# Altium integrated library Maxim Digital Potentiometers.IntLib: 1045 symbols (part 22 of 42)
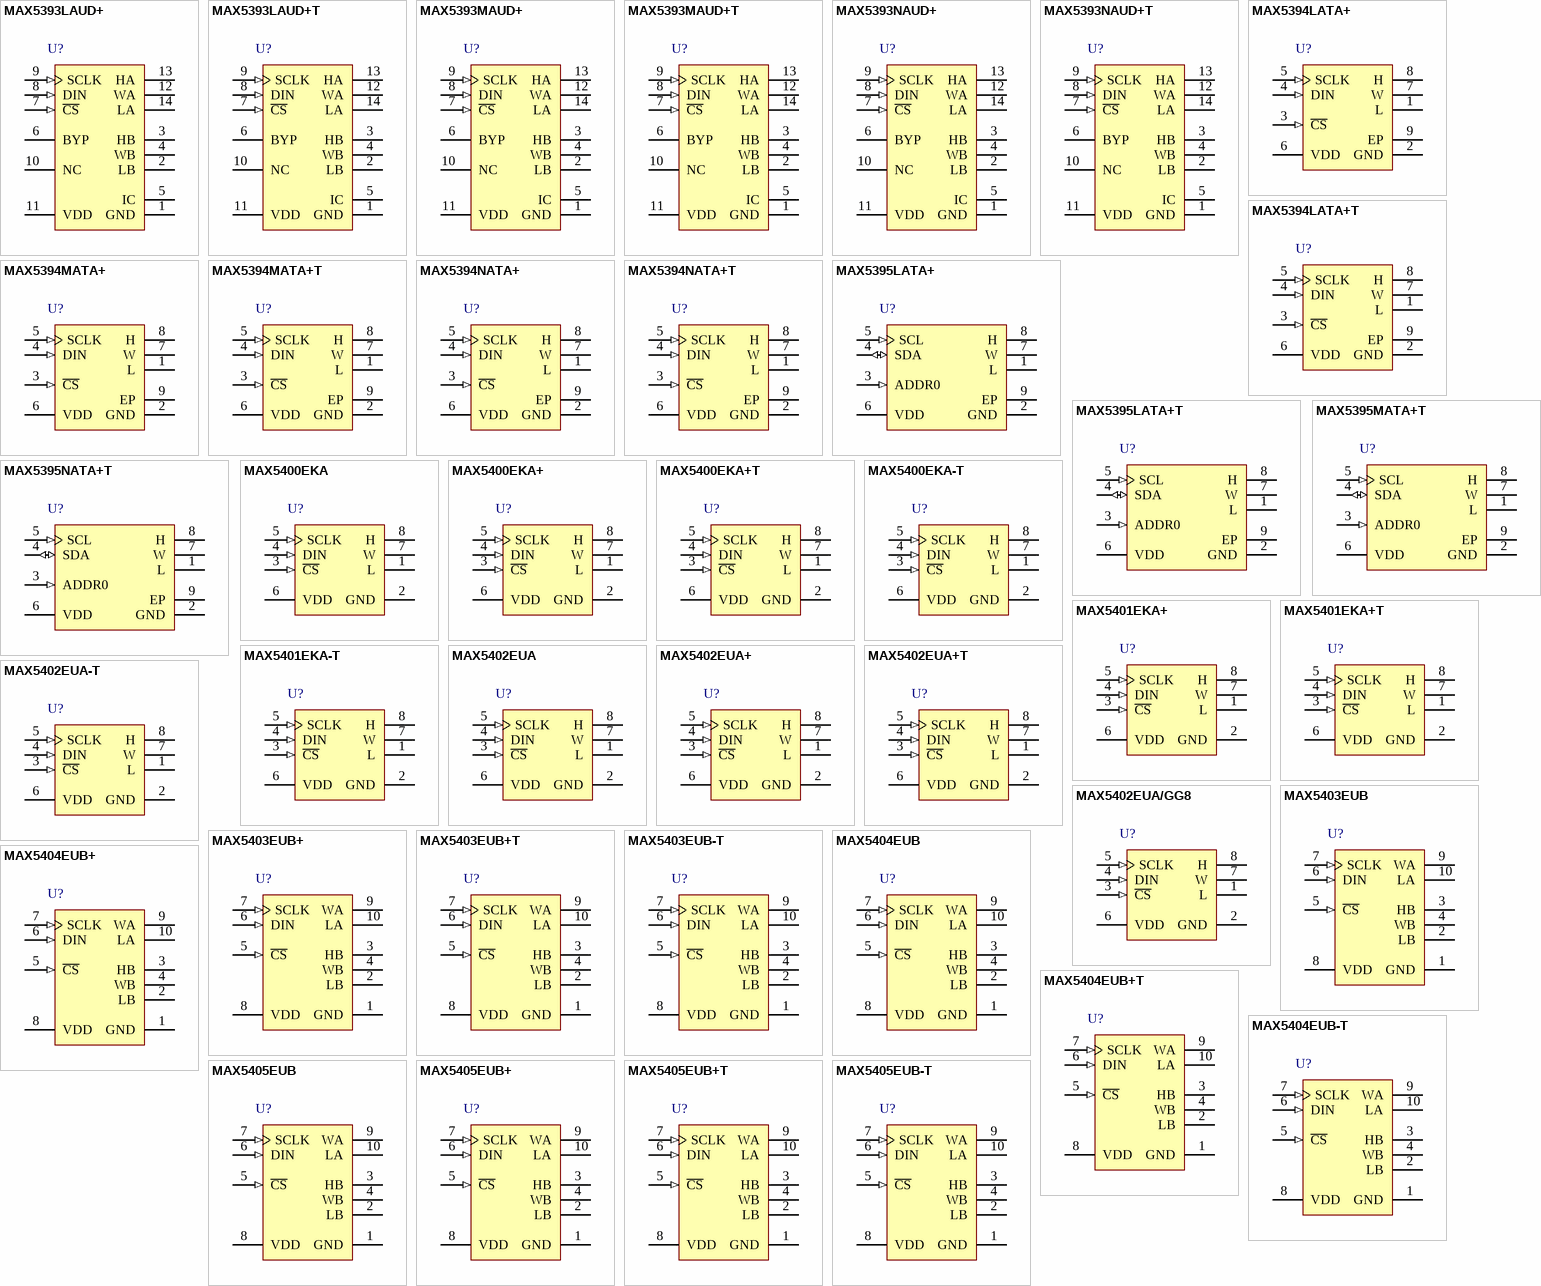
[diagram p50: symbols MAX5393LAUD+ to MAX5405EUB-T]

## MAX5404EUB-T
designator U?
Dual, Low Drift, Digital Potentiometers in 10-uMAX with 3-Wire Serial SPI Control Interface, Volatile, Linear Taper, 256 Steps, -40 to 85 degC, 10-pin uMAX (U10CN-1), Tape and Reel; PartNumber: MAX5404EUB-T; DatasheetVersion: Rev. 2; PackageVersion: Rev. L, 07/2008; PackageReference: U10CN-1; PackageDescription: 10-Pin Micro-MAX, Thin Shrink Small-Outline (U10CN-1), Body 3 x 3 mm, Pitch 0.5 mm; Supplier 1: Mouser; Supplier Part Number 1: N/A; Control Interface: 3-Wire Serial SPI; Mounting Technology: Surface Mount; Code_JEDEC: MO-187; ComponentLink1Description: Manufacturer URL; ComponentLink1URL: http://www.maximintegrated.com/; ComponentLink2Description: Datasheet; ComponentLink2URL: http://datasheets.maximintegrated.com/en/ds/MAX5403-MAX5405.pdf; ComponentLink3Description: Package Specification; ComponentLink3URL: http://pdfserv.maximintegrated.com/package_dwgs/21-0061.PDF
footprint MAXM-U10CN-1_N (SOP, 10-Leads, Body 3x3mm, Pitch 0.5mm, IPC Medium Density)
footprint MAXM-U10CN-1_L (SOP, 10-Leads, Body 3x3mm, Pitch 0.5mm, IPC High Density)
footprint MAXM-U10CN-1_M (SOP, 10-Leads, Body 3x3mm, Pitch 0.5mm, IPC Low Density)
pins: 1 GND (power) "Ground", 2 LB "Low Terminal of Resistor B", 3 HB "High Terminal of Resistor B", 4 WB "Wiper Terminal of Resistor B", 5 ~{CS} (in) "SPI Chip Select", 6 DIN (in) "SPI Serial Data Input", 7 SCLK (in) "SPI Clock Input", 8 VDD (power) "Power Supply, +2.7V to +5.5V. Connect a 0.1uF capacitor to GND.", 9 WA "Wiper Terminal of Resistor A", 10 LA "Low Terminal of Resistor A"

## MAX5405EUB
designator U?
Dual, Low Drift, Digital Potentiometers in 10-uMAX with 3-Wire Serial SPI Control Interface, Volatile, Linear Taper, 256 Steps, -40 to 85 degC, 10-pin uMAX (U10CN-1); PartNumber: MAX5405EUB; DatasheetVersion: Rev. 2; PackageVersion: Rev. L, 07/2008; PackageReference: U10CN-1; PackageDescription: 10-Pin Micro-MAX, Thin Shrink Small-Outline (U10CN-1), Body 3 x 3 mm, Pitch 0.5 mm; Supplier 1: Digi-Key; Supplier Part Number 1: MAX5405EUB-ND; Supplier 2: Mouser; Supplier Part Number 2: N/A; Control Interface: 3-Wire Serial SPI; Mounting Technology: Surface Mount; Code_JEDEC: MO-187; ComponentLink1Description: Manufacturer URL; ComponentLink1URL: http://www.maximintegrated.com/; ComponentLink2Description: Datasheet; ComponentLink2URL: http://datasheets.maximintegrated.com/en/ds/MAX5403-MAX5405.pdf; ComponentLink3Description: Package Specification; ComponentLink3URL: http://pdfserv.maximintegrated.com/package_dwgs/21-0061.PDF
footprint MAXM-U10CN-1_N (SOP, 10-Leads, Body 3x3mm, Pitch 0.5mm, IPC Medium Density)
footprint MAXM-U10CN-1_L (SOP, 10-Leads, Body 3x3mm, Pitch 0.5mm, IPC High Density)
footprint MAXM-U10CN-1_M (SOP, 10-Leads, Body 3x3mm, Pitch 0.5mm, IPC Low Density)
pins: 1 GND (power) "Ground", 2 LB "Low Terminal of Resistor B", 3 HB "High Terminal of Resistor B", 4 WB "Wiper Terminal of Resistor B", 5 ~{CS} (in) "SPI Chip Select", 6 DIN (in) "SPI Serial Data Input", 7 SCLK (in) "SPI Clock Input", 8 VDD (power) "Power Supply, +2.7V to +5.5V. Connect a 0.1uF capacitor to GND.", 9 WA "Wiper Terminal of Resistor A", 10 LA "Low Terminal of Resistor A"

## MAX5405EUB+
designator U?
Dual, Low Drift, Digital Potentiometers in 10-uMAX with 3-Wire Serial SPI Control Interface, Volatile, Linear Taper, 256 Steps, -40 to 85 degC, 10-pin uMAX (U10CN+1), Pb-Free; PartNumber: MAX5405EUB+; DatasheetVersion: Rev. 2; PackageVersion: Rev. L, 07/2008; PackageReference: U10CN+1; PackageDescription: 10-Pin Micro-MAX, Thin Shrink Small-Outline (U10CN+1), Body 3 x 3 mm, Pitch 0.5 mm; Supplier 1: Digi-Key; Supplier Part Number 1: MAX5405EUB+-ND; Supplier 2: Mouser; Supplier Part Number 2: 700-MAX5405EUB; Control Interface: 3-Wire Serial SPI; Mounting Technology: Surface Mount; Code_JEDEC: MO-187; ComponentLink1Description: Manufacturer URL; ComponentLink1URL: http://www.maximintegrated.com/; ComponentLink2Description: Datasheet; ComponentLink2URL: http://datasheets.maximintegrated.com/en/ds/MAX5403-MAX5405.pdf; ComponentLink3Description: Package Specification; ComponentLink3URL: http://pdfserv.maximintegrated.com/package_dwgs/21-0061.PDF
footprint MAXM-U10CN+1_N (SOP, 10-Leads, Body 3x3mm, Pitch 0.5mm, IPC Medium Density)
footprint MAXM-U10CN+1_L (SOP, 10-Leads, Body 3x3mm, Pitch 0.5mm, IPC High Density)
footprint MAXM-U10CN+1_M (SOP, 10-Leads, Body 3x3mm, Pitch 0.5mm, IPC Low Density)
pins: 1 GND (power) "Ground", 2 LB "Low Terminal of Resistor B", 3 HB "High Terminal of Resistor B", 4 WB "Wiper Terminal of Resistor B", 5 ~{CS} (in) "SPI Chip Select", 6 DIN (in) "SPI Serial Data Input", 7 SCLK (in) "SPI Clock Input", 8 VDD (power) "Power Supply, +2.7V to +5.5V. Connect a 0.1uF capacitor to GND.", 9 WA "Wiper Terminal of Resistor A", 10 LA "Low Terminal of Resistor A"

## MAX5405EUB+T
designator U?
Dual, Low Drift, Digital Potentiometers in 10-uMAX with 3-Wire Serial SPI Control Interface, Volatile, Linear Taper, 256 Steps, -40 to 85 degC, 10-pin uMAX (U10CN+1), Pb-Free, Tape and Reel; PartNumber: MAX5405EUB+T; DatasheetVersion: Rev. 2; PackageVersion: Rev. L, 07/2008; PackageReference: U10CN+1; PackageDescription: 10-Pin Micro-MAX, Thin Shrink Small-Outline (U10CN+1), Body 3 x 3 mm, Pitch 0.5 mm; Supplier 1: Digi-Key; Supplier Part Number 1: MAX5405EUB+T-ND; Supplier 2: Mouser; Supplier Part Number 2: 700-MAX5405EUBT; Control Interface: 3-Wire Serial SPI; Mounting Technology: Surface Mount; Code_JEDEC: MO-187; ComponentLink1Description: Manufacturer URL; ComponentLink1URL: http://www.maximintegrated.com/; ComponentLink2Description: Datasheet; ComponentLink2URL: http://datasheets.maximintegrated.com/en/ds/MAX5403-MAX5405.pdf; ComponentLink3Description: Package Specification; ComponentLink3URL: http://pdfserv.maximintegrated.com/package_dwgs/21-0061.PDF
footprint MAXM-U10CN+1_N (SOP, 10-Leads, Body 3x3mm, Pitch 0.5mm, IPC Medium Density)
footprint MAXM-U10CN+1_L (SOP, 10-Leads, Body 3x3mm, Pitch 0.5mm, IPC High Density)
footprint MAXM-U10CN+1_M (SOP, 10-Leads, Body 3x3mm, Pitch 0.5mm, IPC Low Density)
pins: 1 GND (power) "Ground", 2 LB "Low Terminal of Resistor B", 3 HB "High Terminal of Resistor B", 4 WB "Wiper Terminal of Resistor B", 5 ~{CS} (in) "SPI Chip Select", 6 DIN (in) "SPI Serial Data Input", 7 SCLK (in) "SPI Clock Input", 8 VDD (power) "Power Supply, +2.7V to +5.5V. Connect a 0.1uF capacitor to GND.", 9 WA "Wiper Terminal of Resistor A", 10 LA "Low Terminal of Resistor A"

## MAX5405EUB-T
designator U?
Dual, Low Drift, Digital Potentiometers in 10-uMAX with 3-Wire Serial SPI Control Interface, Volatile, Linear Taper, 256 Steps, -40 to 85 degC, 10-pin uMAX (U10CN-1), Tape and Reel; PartNumber: MAX5405EUB-T; DatasheetVersion: Rev. 2; PackageVersion: Rev. L, 07/2008; PackageReference: U10CN-1; PackageDescription: 10-Pin Micro-MAX, Thin Shrink Small-Outline (U10CN-1), Body 3 x 3 mm, Pitch 0.5 mm; Supplier 1: Mouser; Supplier Part Number 1: N/A; Control Interface: 3-Wire Serial SPI; Mounting Technology: Surface Mount; Code_JEDEC: MO-187; ComponentLink1Description: Manufacturer URL; ComponentLink1URL: http://www.maximintegrated.com/; ComponentLink2Description: Datasheet; ComponentLink2URL: http://datasheets.maximintegrated.com/en/ds/MAX5403-MAX5405.pdf; ComponentLink3Description: Package Specification; ComponentLink3URL: http://pdfserv.maximintegrated.com/package_dwgs/21-0061.PDF
footprint MAXM-U10CN-1_N (SOP, 10-Leads, Body 3x3mm, Pitch 0.5mm, IPC Medium Density)
footprint MAXM-U10CN-1_L (SOP, 10-Leads, Body 3x3mm, Pitch 0.5mm, IPC High Density)
footprint MAXM-U10CN-1_M (SOP, 10-Leads, Body 3x3mm, Pitch 0.5mm, IPC Low Density)
pins: 1 GND (power) "Ground", 2 LB "Low Terminal of Resistor B", 3 HB "High Terminal of Resistor B", 4 WB "Wiper Terminal of Resistor B", 5 ~{CS} (in) "SPI Chip Select", 6 DIN (in) "SPI Serial Data Input", 7 SCLK (in) "SPI Clock Input", 8 VDD (power) "Power Supply, +2.7V to +5.5V. Connect a 0.1uF capacitor to GND.", 9 WA "Wiper Terminal of Resistor A", 10 LA "Low Terminal of Resistor A"

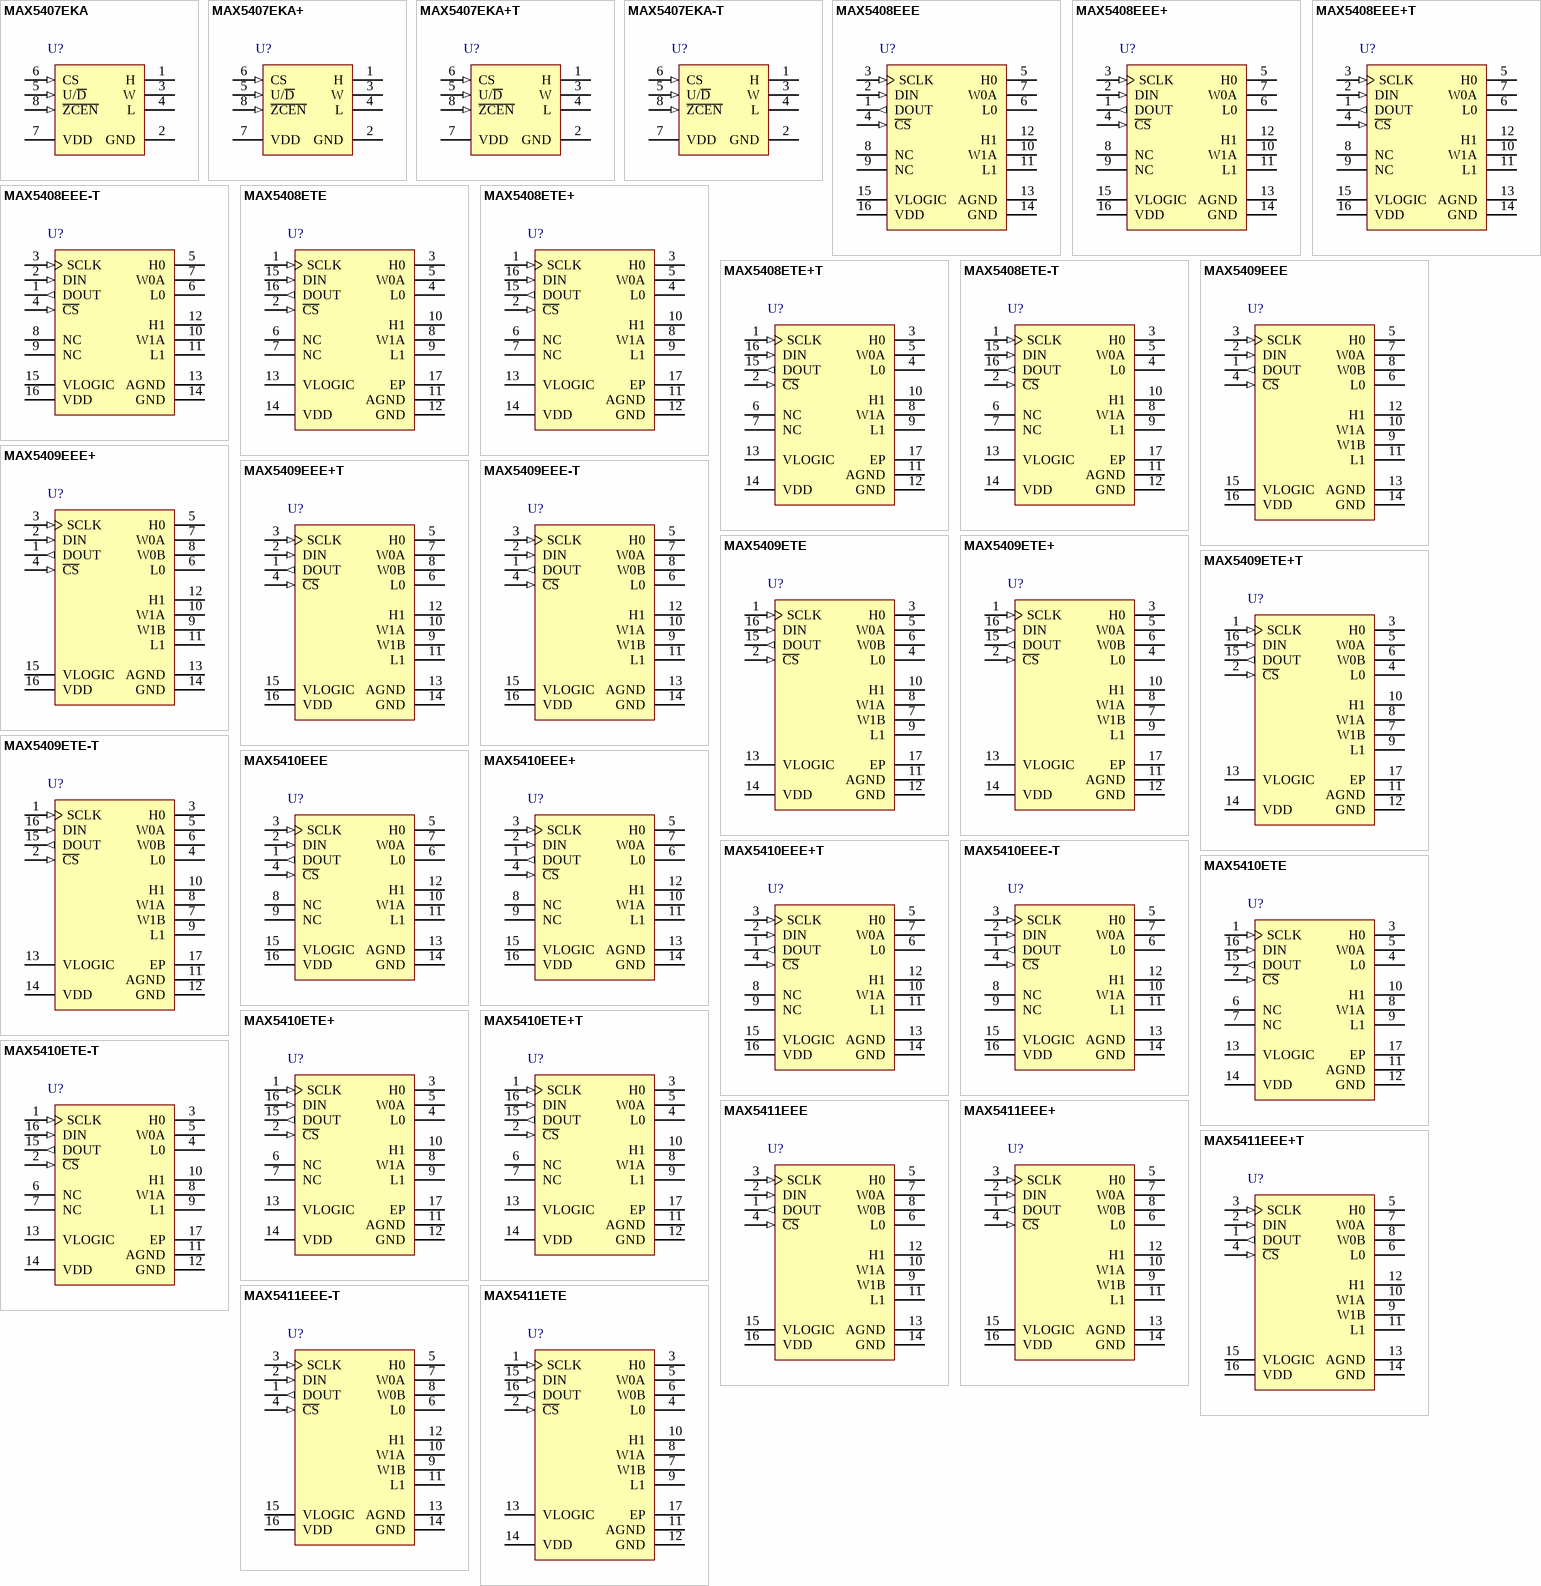
[diagram p15: symbols MAX5407EKA to MAX5411ETE]

## MAX5407EKA
designator U?
Audio Digital Potentiometer with Direction+Clock Control Interface, Volatile, Log Taper, 32 Steps, -40 to 85 degC, 8-pin SOT (K8SN-1); PartNumber: MAX5407EKA; DatasheetVersion: Rev. 0; PackageVersion: Rev. J, 10/2009; PackageReference: K8SN-1; PackageDescription: 8-Pin Small-Outline Transistor Package (K8SN-1), Body 2.9 x 1.625 mm, Pitch 0.65 mm; Supplier 1: Mouser; Supplier Part Number 1: N/A; Control Interface: Direction+Clock; Mounting Technology: Surface Mount; Code_JEDEC: MO178; ComponentLink1Description: Manufacturer URL; ComponentLink1URL: http://www.maximintegrated.com/; ComponentLink2Description: Datasheet; ComponentLink2URL: http://datasheets.maximintegrated.com/en/ds/MAX5407.pdf; ComponentLink3Description: Package Specification; ComponentLink3URL: http://pdfserv.maximintegrated.com/package_dwgs/21-0078.PDF
footprint MAXM-K8SN-1_V (SOT23, 8-Leads, Body 2.9x1.625mm, Pitch 0.65mm)
pins: 1 H "High Terminal of Resistor", 2 GND (power) "Ground", 3 W "Wiper Terminal of Resistor", 4 L "Low Terminal of Resistor", 5 U/~{D} (in) "Up/Down Control Input. With CS high, a low-to-high transition increments or decrements the wiper position, depending on the mode.", 6 CS (in) "Chip-Select Input. A low-to-high CS transition determines the mode: increment if U/D\ is high, decrement if U/D\ is low.", 7 VDD (power) "Power Supply", 8 ~{ZCEN} (in) "Zero-Crossing Detection Enable Input. Set to low to enable zero-crossing detection."

## MAX5407EKA+
designator U?
Audio Digital Potentiometer with Direction+Clock Control Interface, Volatile, Log Taper, 32 Steps, -40 to 85 degC, 8-pin SOT (K8SN+1), Pb-Free; PartNumber: MAX5407EKA+; DatasheetVersion: Rev. 0; PackageVersion: Rev. J, 10/2009; PackageReference: K8SN+1; PackageDescription: 8-Pin Small-Outline Transistor Package (K8SN+1), Body 2.9 x 1.625 mm, Pitch 0.65 mm; Supplier 1: Mouser; Supplier Part Number 1: N/A; Control Interface: Direction+Clock; Mounting Technology: Surface Mount; Code_JEDEC: MO178; ComponentLink1Description: Manufacturer URL; ComponentLink1URL: http://www.maximintegrated.com/; ComponentLink2Description: Datasheet; ComponentLink2URL: http://datasheets.maximintegrated.com/en/ds/MAX5407.pdf; ComponentLink3Description: Package Specification; ComponentLink3URL: http://pdfserv.maximintegrated.com/package_dwgs/21-0078.PDF
footprint MAXM-K8SN+1_V (SOT23, 8-Leads, Body 2.9x1.625mm, Pitch 0.65 mm)
pins: 1 H "High Terminal of Resistor", 2 GND (power) "Ground", 3 W "Wiper Terminal of Resistor", 4 L "Low Terminal of Resistor", 5 U/~{D} (in) "Up/Down Control Input. With CS high, a low-to-high transition increments or decrements the wiper position, depending on the mode.", 6 CS (in) "Chip-Select Input. A low-to-high CS transition determines the mode: increment if U/D\ is high, decrement if U/D\ is low.", 7 VDD (power) "Power Supply", 8 ~{ZCEN} (in) "Zero-Crossing Detection Enable Input. Set to low to enable zero-crossing detection."

## MAX5407EKA+T
designator U?
Audio Digital Potentiometer with Direction+Clock Control Interface, Volatile, Log Taper, 32 Steps, -40 to 85 degC, 8-pin SOT (K8SN+1), Pb-Free, Tape and Reel; PartNumber: MAX5407EKA+T; DatasheetVersion: Rev. 0; PackageVersion: Rev. J, 10/2009; PackageReference: K8SN+1; PackageDescription: 8-Pin Small-Outline Transistor Package (K8SN+1), Body 2.9 x 1.625 mm, Pitch 0.65 mm; Supplier 1: Digi-Key; Supplier Part Number 1: MAX5407EKA+TTR-ND; Supplier 2: Digi-Key; Supplier Part Number 2: MAX5407EKA+TCT-ND; Supplier 3: Digi-Key; Supplier Part Number 3: MAX5407EKA+TDKR-ND; Supplier 4: Mouser; Supplier Part Number 4: 700-MAX5407EKAT; Control Interface: Direction+Clock; Mounting Technology: Surface Mount; Code_JEDEC: MO178; ComponentLink1Description: Manufacturer URL; ComponentLink1URL: http://www.maximintegrated.com/; ComponentLink2Description: Datasheet; ComponentLink2URL: http://datasheets.maximintegrated.com/en/ds/MAX5407.pdf; ComponentLink3Description: Package Specification; ComponentLink3URL: http://pdfserv.maximintegrated.com/package_dwgs/21-0078.PDF
footprint MAXM-K8SN+1_V (SOT23, 8-Leads, Body 2.9x1.625mm, Pitch 0.65 mm)
pins: 1 H "High Terminal of Resistor", 2 GND (power) "Ground", 3 W "Wiper Terminal of Resistor", 4 L "Low Terminal of Resistor", 5 U/~{D} (in) "Up/Down Control Input. With CS high, a low-to-high transition increments or decrements the wiper position, depending on the mode.", 6 CS (in) "Chip-Select Input. A low-to-high CS transition determines the mode: increment if U/D\ is high, decrement if U/D\ is low.", 7 VDD (power) "Power Supply", 8 ~{ZCEN} (in) "Zero-Crossing Detection Enable Input. Set to low to enable zero-crossing detection."

## MAX5407EKA-T
designator U?
Audio Digital Potentiometer with Direction+Clock Control Interface, Volatile, Log Taper, 32 Steps, -40 to 85 degC, 8-pin SOT (K8SN-1), Tape and Reel; PartNumber: MAX5407EKA-T; DatasheetVersion: Rev. 0; PackageVersion: Rev. J, 10/2009; PackageReference: K8SN-1; PackageDescription: 8-Pin Small-Outline Transistor Package (K8SN-1), Body 2.9 x 1.625 mm, Pitch 0.65 mm; Supplier 1: Mouser; Supplier Part Number 1: N/A; Control Interface: Direction+Clock; Mounting Technology: Surface Mount; Code_JEDEC: MO178; ComponentLink1Description: Manufacturer URL; ComponentLink1URL: http://www.maximintegrated.com/; ComponentLink2Description: Datasheet; ComponentLink2URL: http://datasheets.maximintegrated.com/en/ds/MAX5407.pdf; ComponentLink3Description: Package Specification; ComponentLink3URL: http://pdfserv.maximintegrated.com/package_dwgs/21-0078.PDF
footprint MAXM-K8SN-1_V (SOT23, 8-Leads, Body 2.9x1.625mm, Pitch 0.65mm)
pins: 1 H "High Terminal of Resistor", 2 GND (power) "Ground", 3 W "Wiper Terminal of Resistor", 4 L "Low Terminal of Resistor", 5 U/~{D} (in) "Up/Down Control Input. With CS high, a low-to-high transition increments or decrements the wiper position, depending on the mode.", 6 CS (in) "Chip-Select Input. A low-to-high CS transition determines the mode: increment if U/D\ is high, decrement if U/D\ is low.", 7 VDD (power) "Power Supply", 8 ~{ZCEN} (in) "Zero-Crossing Detection Enable Input. Set to low to enable zero-crossing detection."

## MAX5408EEE
designator U?
Dual Audio Digital Potentiometer with 3-Wire Serial SPI Control Interface, Volatile, Log Taper, 32 Steps, -40 to 85 degC, 16-pin QSOP (E16-1); PartNumber: MAX5408EEE; DatasheetVersion: Rev. 3; PackageVersion: Rev. K, 04/2012; PackageReference: E16-1; PackageDescription: 16-Pin Quarter Small-Outline Package (E16-1), Body 4.90 x 3.89 mm, Pitch 0.635 mm; Supplier 1: Mouser; Supplier Part Number 1: N/A; Control Interface: 3-Wire Serial SPI; Mounting Technology: Surface Mount; Code_JEDEC: MO137; ComponentLink1Description: Manufacturer URL; ComponentLink1URL: http://www.maximintegrated.com/; ComponentLink2Description: Datasheet; ComponentLink2URL: http://datasheets.maximintegrated.com/en/ds/MAX5408-MAX5411.pdf; ComponentLink3Description: Package Specification; ComponentLink3URL: http://pdfserv.maximintegrated.com/package_dwgs/21-0055.PDF
footprint MAXM-E16-1_N (SOP, 16-Leads, Body 4.9x3.89mm, Pitch 0.635mm, IPC Medium Density)
footprint MAXM-E16-1_L (SOP, 16-Leads, Body 4.9x3.89mm, Pitch 0.635mm, IPC High Density)
footprint MAXM-E16-1_M (SOP, 16-Leads, Body 4.9x3.89mm, Pitch 0.635mm, IPC Low Density)
pins: 1 DOUT (out) "Serial Data Output", 2 DIN (in) "Serial Data Input", 3 SCLK (in) "Serial Clock Input", 4 ~{CS} (in) "Chip-Select Input", 5 H0 "High Terminal of Resistor 0", 6 L0 "Low Terminal of Resistor 0", 7 W0A "Wiper Terminal A of Resistor 0", 8 NC "No Connection. Not internally connected.", 9 NC "No Connection. Not internally connected.", 10 W1A "Wiper Terminal A of Resistor 1", 11 L1 "Low Terminal of Resistor 1", 12 H1 "High Terminal of Resistor 1", 13 AGND (power) "Analog Ground", 14 GND (power) "Ground", 15 VLOGIC (power) "Digital Logic Power Supply", 16 VDD (power) "Analog Power Supply"

## MAX5408EEE+
designator U?
Dual Audio Digital Potentiometer with 3-Wire Serial SPI Control Interface, Volatile, Log Taper, 32 Steps, -40 to 85 degC, 16-pin QSOP (E16+1), Pb-Free; PartNumber: MAX5408EEE+; DatasheetVersion: Rev. 3; PackageVersion: Rev. K, 04/2012; PackageReference: E16+1; PackageDescription: 16-Pin Quarter Small-Outline Package (E16+1), Body 4.90 x 3.89 mm, Pitch 0.635 mm; Supplier 1: Digi-Key; Supplier Part Number 1: MAX5408EEE+-ND; Supplier 2: Mouser; Supplier Part Number 2: 700-MAX5408EEE; Control Interface: 3-Wire Serial SPI; Mounting Technology: Surface Mount; Code_JEDEC: MO137; ComponentLink1Description: Manufacturer URL; ComponentLink1URL: http://www.maximintegrated.com/; ComponentLink2Description: Datasheet; ComponentLink2URL: http://datasheets.maximintegrated.com/en/ds/MAX5408-MAX5411.pdf; ComponentLink3Description: Package Specification; ComponentLink3URL: http://pdfserv.maximintegrated.com/package_dwgs/21-0055.PDF
footprint MAXM-E16+1_N (SOP, 16-Leads, Body 4.9x3.89mm, Pitch 0.635mm, IPC Medium Density)
footprint MAXM-E16+1_L (SOP, 16-Leads, Body 4.9x3.89mm, Pitch 0.635mm, IPC High Density)
footprint MAXM-E16+1_M (SOP, 16-Leads, Body 4.9x3.89mm, Pitch 0.635mm, IPC Low Density)
pins: 1 DOUT (out) "Serial Data Output", 2 DIN (in) "Serial Data Input", 3 SCLK (in) "Serial Clock Input", 4 ~{CS} (in) "Chip-Select Input", 5 H0 "High Terminal of Resistor 0", 6 L0 "Low Terminal of Resistor 0", 7 W0A "Wiper Terminal A of Resistor 0", 8 NC "No Connection. Not internally connected.", 9 NC "No Connection. Not internally connected.", 10 W1A "Wiper Terminal A of Resistor 1", 11 L1 "Low Terminal of Resistor 1", 12 H1 "High Terminal of Resistor 1", 13 AGND (power) "Analog Ground", 14 GND (power) "Ground", 15 VLOGIC (power) "Digital Logic Power Supply", 16 VDD (power) "Analog Power Supply"

## MAX5408EEE+T
designator U?
Dual Audio Digital Potentiometer with 3-Wire Serial SPI Control Interface, Volatile, Log Taper, 32 Steps, -40 to 85 degC, 16-pin QSOP (E16+1), Pb-Free, Tape and Reel; PartNumber: MAX5408EEE+T; DatasheetVersion: Rev. 3; PackageVersion: Rev. K, 04/2012; PackageReference: E16+1; PackageDescription: 16-Pin Quarter Small-Outline Package (E16+1), Body 4.90 x 3.89 mm, Pitch 0.635 mm; Supplier 1: Digi-Key; Supplier Part Number 1: MAX5408EEE+T-ND; Supplier 2: Mouser; Supplier Part Number 2: 700-MAX5408EEET; Control Interface: 3-Wire Serial SPI; Mounting Technology: Surface Mount; Code_JEDEC: MO137; ComponentLink1Description: Manufacturer URL; ComponentLink1URL: http://www.maximintegrated.com/; ComponentLink2Description: Datasheet; ComponentLink2URL: http://datasheets.maximintegrated.com/en/ds/MAX5408-MAX5411.pdf; ComponentLink3Description: Package Specification; ComponentLink3URL: http://pdfserv.maximintegrated.com/package_dwgs/21-0055.PDF
footprint MAXM-E16+1_N (SOP, 16-Leads, Body 4.9x3.89mm, Pitch 0.635mm, IPC Medium Density)
footprint MAXM-E16+1_L (SOP, 16-Leads, Body 4.9x3.89mm, Pitch 0.635mm, IPC High Density)
footprint MAXM-E16+1_M (SOP, 16-Leads, Body 4.9x3.89mm, Pitch 0.635mm, IPC Low Density)
pins: 1 DOUT (out) "Serial Data Output", 2 DIN (in) "Serial Data Input", 3 SCLK (in) "Serial Clock Input", 4 ~{CS} (in) "Chip-Select Input", 5 H0 "High Terminal of Resistor 0", 6 L0 "Low Terminal of Resistor 0", 7 W0A "Wiper Terminal A of Resistor 0", 8 NC "No Connection. Not internally connected.", 9 NC "No Connection. Not internally connected.", 10 W1A "Wiper Terminal A of Resistor 1", 11 L1 "Low Terminal of Resistor 1", 12 H1 "High Terminal of Resistor 1", 13 AGND (power) "Analog Ground", 14 GND (power) "Ground", 15 VLOGIC (power) "Digital Logic Power Supply", 16 VDD (power) "Analog Power Supply"

## MAX5408EEE-T
designator U?
Dual Audio Digital Potentiometer with 3-Wire Serial SPI Control Interface, Volatile, Log Taper, 32 Steps, -40 to 85 degC, 16-pin QSOP (E16-1), Tape and Reel; PartNumber: MAX5408EEE-T; DatasheetVersion: Rev. 3; PackageVersion: Rev. K, 04/2012; PackageReference: E16-1; PackageDescription: 16-Pin Quarter Small-Outline Package (E16-1), Body 4.90 x 3.89 mm, Pitch 0.635 mm; Supplier 1: Mouser; Supplier Part Number 1: N/A; Control Interface: 3-Wire Serial SPI; Mounting Technology: Surface Mount; Code_JEDEC: MO137; ComponentLink1Description: Manufacturer URL; ComponentLink1URL: http://www.maximintegrated.com/; ComponentLink2Description: Datasheet; ComponentLink2URL: http://datasheets.maximintegrated.com/en/ds/MAX5408-MAX5411.pdf; ComponentLink3Description: Package Specification; ComponentLink3URL: http://pdfserv.maximintegrated.com/package_dwgs/21-0055.PDF
footprint MAXM-E16-1_N (SOP, 16-Leads, Body 4.9x3.89mm, Pitch 0.635mm, IPC Medium Density)
footprint MAXM-E16-1_L (SOP, 16-Leads, Body 4.9x3.89mm, Pitch 0.635mm, IPC High Density)
footprint MAXM-E16-1_M (SOP, 16-Leads, Body 4.9x3.89mm, Pitch 0.635mm, IPC Low Density)
pins: 1 DOUT (out) "Serial Data Output", 2 DIN (in) "Serial Data Input", 3 SCLK (in) "Serial Clock Input", 4 ~{CS} (in) "Chip-Select Input", 5 H0 "High Terminal of Resistor 0", 6 L0 "Low Terminal of Resistor 0", 7 W0A "Wiper Terminal A of Resistor 0", 8 NC "No Connection. Not internally connected.", 9 NC "No Connection. Not internally connected.", 10 W1A "Wiper Terminal A of Resistor 1", 11 L1 "Low Terminal of Resistor 1", 12 H1 "High Terminal of Resistor 1", 13 AGND (power) "Analog Ground", 14 GND (power) "Ground", 15 VLOGIC (power) "Digital Logic Power Supply", 16 VDD (power) "Analog Power Supply"

## MAX5408ETE
designator U?
Dual Audio Digital Potentiometer with 3-Wire Serial SPI Control Interface, Volatile, Log Taper, 32 Steps, -40 to 85 degC, 16-pin TQFN (T1644-4); PartNumber: MAX5408ETE; DatasheetVersion: Rev. 3; PackageVersion: Rev. L, 04/2012; PackageReference: T1644-4; PackageDescription: 16-Pin Thin Quad Flatpack, No Leads (T1644-4), Body 4 x 4 mm, Pitch 0.65 mm; Supplier 1: Mouser; Supplier Part Number 1: N/A; Control Interface: 3-Wire Serial SPI; Mounting Technology: Surface Mount; Code_JEDEC: MO220; ComponentLink1Description: Manufacturer URL; ComponentLink1URL: http://www.maximintegrated.com/; ComponentLink2Description: Datasheet; ComponentLink2URL: http://datasheets.maximintegrated.com/en/ds/MAX5408-MAX5411.pdf; ComponentLink3Description: Package Specification; ComponentLink3URL: http://pdfserv.maximintegrated.com/package_dwgs/21-0139.PDF
footprint MAXM-T1644-4_N (QFN, 16-Leads, Body 4x4mm, Pitch 0.65mm, Thermal Pad 2.1x2.1mm, IPC Medium Density)
footprint MAXM-T1644-4_L (QFN, 16-Leads, Body 4x4mm, Pitch 0.65mm, Thermal Pad 2.1x2.1mm, IPC High Density)
footprint MAXM-T1644-4_M (QFN, 16-Leads, Body 4x4mm, Pitch 0.65mm, Thermal Pad 2.1x2.1mm, IPC Low Density)
pins: 1 SCLK (in) "Serial Clock Input", 2 ~{CS} (in) "Chip-Select Input", 3 H0 "High Terminal of Resistor 0", 4 L0 "Low Terminal of Resistor 0", 5 W0A "Wiper Terminal A of Resistor 0", 6 NC "No Connection. Not internally connected.", 7 NC "No Connection. Not internally connected.", 8 W1A "Wiper Terminal A of Resistor 1", 9 L1 "Low Terminal of Resistor 1", 10 H1 "High Terminal of Resistor 1", 11 AGND (power) "Analog Ground", 12 GND (power) "Ground", 13 VLOGIC (power) "Digital Logic Power Supply", 14 VDD (power) "Analog Power Supply", 15 DIN (in) "Serial Data Input", 16 DOUT (out) "Serial Data Output", 17 EP

## MAX5408ETE+
designator U?
Dual Audio Digital Potentiometer with 3-Wire Serial SPI Control Interface, Volatile, Log Taper, 32 Steps, -40 to 85 degC, 16-pin TQFN (T1644+4), Pb-Free; PartNumber: MAX5408ETE+; DatasheetVersion: Rev. 3; PackageVersion: Rev. L, 04/2012; PackageReference: T1644+4; PackageDescription: 16-Pin Thin Quad Flatpack, No Leads (T1644+4), Body 4 x 4 mm, Pitch 0.65 mm; Supplier 1: Digi-Key; Supplier Part Number 1: MAX5408ETE+-ND; Supplier 2: Mouser; Supplier Part Number 2: 700-MAX5408ETE; Control Interface: 3-Wire Serial SPI; Mounting Technology: Surface Mount; Code_JEDEC: MO220; ComponentLink1Description: Manufacturer URL; ComponentLink1URL: http://www.maximintegrated.com/; ComponentLink2Description: Datasheet; ComponentLink2URL: http://datasheets.maximintegrated.com/en/ds/MAX5408-MAX5411.pdf; ComponentLink3Description: Package Specification; ComponentLink3URL: http://pdfserv.maximintegrated.com/package_dwgs/21-0139.PDF
footprint MAXM-T1644+4_N (QFN, 16-Leads, Body 4x4mm, Pitch 0.65mm, Thermal Pad 2.1x2.1mm, IPC Medium Density)
footprint MAXM-T1644+4_L (QFN, 16-Leads, Body 4x4mm, Pitch 0.65mm, Thermal Pad 2.1x2.1mm, IPC High Density)
footprint MAXM-T1644+4_M (QFN, 16-Leads, Body 4x4mm, Pitch 0.65mm, Thermal Pad 2.1x2.1mm, IPC Low Density)
pins: 1 SCLK (in) "Serial Clock Input", 2 ~{CS} (in) "Chip-Select Input", 3 H0 "High Terminal of Resistor 0", 4 L0 "Low Terminal of Resistor 0", 5 W0A "Wiper Terminal A of Resistor 0", 6 NC "No Connection. Not internally connected.", 7 NC "No Connection. Not internally connected.", 8 W1A "Wiper Terminal A of Resistor 1", 9 L1 "Low Terminal of Resistor 1", 10 H1 "High Terminal of Resistor 1", 11 AGND (power) "Analog Ground", 12 GND (power) "Ground", 13 VLOGIC (power) "Digital Logic Power Supply", 14 VDD (power) "Analog Power Supply", 15 DOUT (out) "Serial Data Output", 16 DIN (in) "Serial Data Input", 17 EP

## MAX5408ETE+T
designator U?
Dual Audio Digital Potentiometer with 3-Wire Serial SPI Control Interface, Volatile, Log Taper, 32 Steps, -40 to 85 degC, 16-pin TQFN (T1644+4), Pb-Free, Tape and Reel; PartNumber: MAX5408ETE+T; DatasheetVersion: Rev. 3; PackageVersion: Rev. L, 04/2012; PackageReference: T1644+4; PackageDescription: 16-Pin Thin Quad Flatpack, No Leads (T1644+4), Body 4 x 4 mm, Pitch 0.65 mm; Supplier 1: Digi-Key; Supplier Part Number 1: MAX5408ETE+T-ND; Supplier 2: Mouser; Supplier Part Number 2: 700-MAX5408ETET; Control Interface: 3-Wire Serial SPI; Mounting Technology: Surface Mount; Code_JEDEC: MO220; ComponentLink1Description: Manufacturer URL; ComponentLink1URL: http://www.maximintegrated.com/; ComponentLink2Description: Datasheet; ComponentLink2URL: http://datasheets.maximintegrated.com/en/ds/MAX5408-MAX5411.pdf; ComponentLink3Description: Package Specification; ComponentLink3URL: http://pdfserv.maximintegrated.com/package_dwgs/21-0139.PDF
footprint MAXM-T1644+4_N (QFN, 16-Leads, Body 4x4mm, Pitch 0.65mm, Thermal Pad 2.1x2.1mm, IPC Medium Density)
footprint MAXM-T1644+4_L (QFN, 16-Leads, Body 4x4mm, Pitch 0.65mm, Thermal Pad 2.1x2.1mm, IPC High Density)
footprint MAXM-T1644+4_M (QFN, 16-Leads, Body 4x4mm, Pitch 0.65mm, Thermal Pad 2.1x2.1mm, IPC Low Density)
pins: 1 SCLK (in) "Serial Clock Input", 2 ~{CS} (in) "Chip-Select Input", 3 H0 "High Terminal of Resistor 0", 4 L0 "Low Terminal of Resistor 0", 5 W0A "Wiper Terminal A of Resistor 0", 6 NC "No Connection. Not internally connected.", 7 NC "No Connection. Not internally connected.", 8 W1A "Wiper Terminal A of Resistor 1", 9 L1 "Low Terminal of Resistor 1", 10 H1 "High Terminal of Resistor 1", 11 AGND (power) "Analog Ground", 12 GND (power) "Ground", 13 VLOGIC (power) "Digital Logic Power Supply", 14 VDD (power) "Analog Power Supply", 15 DOUT (out) "Serial Data Output", 16 DIN (in) "Serial Data Input", 17 EP

## MAX5408ETE-T
designator U?
Dual Audio Digital Potentiometer with 3-Wire Serial SPI Control Interface, Volatile, Log Taper, 32 Steps, -40 to 85 degC, 16-pin TQFN (T1644-4), Tape and Reel; PartNumber: MAX5408ETE-T; DatasheetVersion: Rev. 3; PackageVersion: Rev. L, 04/2012; PackageReference: T1644-4; PackageDescription: 16-Pin Thin Quad Flatpack, No Leads (T1644-4), Body 4 x 4 mm, Pitch 0.65 mm; Supplier 1: Mouser; Supplier Part Number 1: N/A; Control Interface: 3-Wire Serial SPI; Mounting Technology: Surface Mount; Code_JEDEC: MO220; ComponentLink1Description: Manufacturer URL; ComponentLink1URL: http://www.maximintegrated.com/; ComponentLink2Description: Datasheet; ComponentLink2URL: http://datasheets.maximintegrated.com/en/ds/MAX5408-MAX5411.pdf; ComponentLink3Description: Package Specification; ComponentLink3URL: http://pdfserv.maximintegrated.com/package_dwgs/21-0139.PDF
footprint MAXM-T1644-4_N (QFN, 16-Leads, Body 4x4mm, Pitch 0.65mm, Thermal Pad 2.1x2.1mm, IPC Medium Density)
footprint MAXM-T1644-4_L (QFN, 16-Leads, Body 4x4mm, Pitch 0.65mm, Thermal Pad 2.1x2.1mm, IPC High Density)
footprint MAXM-T1644-4_M (QFN, 16-Leads, Body 4x4mm, Pitch 0.65mm, Thermal Pad 2.1x2.1mm, IPC Low Density)
pins: 1 SCLK (in) "Serial Clock Input", 2 ~{CS} (in) "Chip-Select Input", 3 H0 "High Terminal of Resistor 0", 4 L0 "Low Terminal of Resistor 0", 5 W0A "Wiper Terminal A of Resistor 0", 6 NC "No Connection. Not internally connected.", 7 NC "No Connection. Not internally connected.", 8 W1A "Wiper Terminal A of Resistor 1", 9 L1 "Low Terminal of Resistor 1", 10 H1 "High Terminal of Resistor 1", 11 AGND (power) "Analog Ground", 12 GND (power) "Ground", 13 VLOGIC (power) "Digital Logic Power Supply", 14 VDD (power) "Analog Power Supply", 15 DIN (in) "Serial Data Input", 16 DOUT (out) "Serial Data Output", 17 EP

## MAX5409EEE
designator U?
Dual Audio Digital Potentiometer with 3-Wire Serial SPI Control Interface, Volatile, Log Taper, 32 Steps, -40 to 85 degC, 16-pin QSOP (E16-4); PartNumber: MAX5409EEE; DatasheetVersion: Rev. 3; PackageVersion: Rev. K, 04/2012; PackageReference: E16-4; PackageDescription: 16-Pin Quarter Small-Outline Package, Body 4.90 x 3.89 mm, Pitch 0.635 mm; Supplier 1: Mouser; Supplier Part Number 1: N/A; Control Interface: 3-Wire Serial SPI; Features: Dual Wipers Per Resistor String; Mounting Technology: Surface Mount; Code_JEDEC: MO137; ComponentLink1Description: Manufacturer URL; ComponentLink1URL: http://www.maximintegrated.com/; ComponentLink2Description: Datasheet; ComponentLink2URL: http://datasheets.maximintegrated.com/en/ds/MAX5408-MAX5411.pdf; ComponentLink3Description: Package Specification; ComponentLink3URL: http://pdfserv.maximintegrated.com/package_dwgs/21-0055.PDF
footprint MAXM-E16-4_N (SOP, 16-Leads, Body 4.90x3.89mm, Pitch 0.635mm, IPC Medium Density)
footprint MAXM-E16-4_L (SOP, 16-Leads, Body 4.90x3.89mm, Pitch 0.635mm, IPC High Density)
footprint MAXM-E16-4_M (SOP, 16-Leads, Body 4.90x3.89mm, Pitch 0.635mm, IPC Low Density)
pins: 1 DOUT (out) "Serial Data Output", 2 DIN (in) "Serial Data Input", 3 SCLK (in) "Serial Clock Input", 4 ~{CS} (in) "Chip-Select Input", 5 H0 "High Terminal of Resistor 0", 6 L0 "Low Terminal of Resistor 0", 7 W0A "Wiper Terminal A of Resistor 0", 8 W0B "Wiper Terminal B of Resistor 0", 9 W1B "Wiper Terminal B of Resistor 1", 10 W1A "Wiper Terminal A of Resistor 1", 11 L1 "Low Terminal of Resistor 1", 12 H1 "High Terminal of Resistor 1", 13 AGND (power) "Analog Ground", 14 GND (power) "Ground", 15 VLOGIC (power) "Digital Logic Power Supply", 16 VDD (power) "Analog Power Supply"

## MAX5409EEE+
designator U?
Dual Audio Digital Potentiometer with 3-Wire Serial SPI Control Interface, Volatile, Log Taper, 32 Steps, -40 to 85 degC, 16-pin QSOP (E16+4), Pb-Free; PartNumber: MAX5409EEE+; DatasheetVersion: Rev. 3; PackageVersion: Rev. K, 04/2012; PackageReference: E16+4; PackageDescription: 16-Pin Quarter Small-Outline Package, Body 4.90 x 3.89 mm, Pitch 0.635 mm; Supplier 1: Digi-Key; Supplier Part Number 1: MAX5409EEE+-ND; Supplier 2: Mouser; Supplier Part Number 2: 700-MAX5409EEE; Control Interface: 3-Wire Serial SPI; Features: Dual Wipers Per Resistor String; Mounting Technology: Surface Mount; Code_JEDEC: MO137; ComponentLink1Description: Manufacturer URL; ComponentLink1URL: http://www.maximintegrated.com/; ComponentLink2Description: Datasheet; ComponentLink2URL: http://datasheets.maximintegrated.com/en/ds/MAX5408-MAX5411.pdf; ComponentLink3Description: Package Specification; ComponentLink3URL: http://pdfserv.maximintegrated.com/package_dwgs/21-0055.PDF
footprint MAXM-E16+4_N (SOP, 16-Leads, Body 4.90x3.89mm, Pitch 0.635mm, IPC Medium Density)
footprint MAXM-E16+4_L (SOP, 16-Leads, Body 4.90x3.89mm, Pitch 0.635mm, IPC High Density)
footprint MAXM-E16+4_M (SOP, 16-Leads, Body 4.90x3.89mm, Pitch 0.635mm, IPC Low Density)
pins: 1 DOUT (out) "Serial Data Output", 2 DIN (in) "Serial Data Input", 3 SCLK (in) "Serial Clock Input", 4 ~{CS} (in) "Chip-Select Input", 5 H0 "High Terminal of Resistor 0", 6 L0 "Low Terminal of Resistor 0", 7 W0A "Wiper Terminal A of Resistor 0", 8 W0B "Wiper Terminal B of Resistor 0", 9 W1B "Wiper Terminal B of Resistor 1", 10 W1A "Wiper Terminal A of Resistor 1", 11 L1 "Low Terminal of Resistor 1", 12 H1 "High Terminal of Resistor 1", 13 AGND (power) "Analog Ground", 14 GND (power) "Ground", 15 VLOGIC (power) "Digital Logic Power Supply", 16 VDD (power) "Analog Power Supply"

## MAX5409EEE+T
designator U?
Dual Audio Digital Potentiometer with 3-Wire Serial SPI Control Interface, Volatile, Log Taper, 32 Steps, -40 to 85 degC, 16-pin QSOP (E16+4), Pb-Free, Tape and Reel; PartNumber: MAX5409EEE+T; DatasheetVersion: Rev. 3; PackageVersion: Rev. K, 04/2012; PackageReference: E16+4; PackageDescription: 16-Pin Quarter Small-Outline Package, Body 4.90 x 3.89 mm, Pitch 0.635 mm; Supplier 1: Digi-Key; Supplier Part Number 1: MAX5409EEE+T-ND; Supplier 2: Mouser; Supplier Part Number 2: 700-MAX5409EEET; Control Interface: 3-Wire Serial SPI; Features: Dual Wipers Per Resistor String; Mounting Technology: Surface Mount; Code_JEDEC: MO137; ComponentLink1Description: Manufacturer URL; ComponentLink1URL: http://www.maximintegrated.com/; ComponentLink2Description: Datasheet; ComponentLink2URL: http://datasheets.maximintegrated.com/en/ds/MAX5408-MAX5411.pdf; ComponentLink3Description: Package Specification; ComponentLink3URL: http://pdfserv.maximintegrated.com/package_dwgs/21-0055.PDF
footprint MAXM-E16+4_N (SOP, 16-Leads, Body 4.90x3.89mm, Pitch 0.635mm, IPC Medium Density)
footprint MAXM-E16+4_L (SOP, 16-Leads, Body 4.90x3.89mm, Pitch 0.635mm, IPC High Density)
footprint MAXM-E16+4_M (SOP, 16-Leads, Body 4.90x3.89mm, Pitch 0.635mm, IPC Low Density)
pins: 1 DOUT (out) "Serial Data Output", 2 DIN (in) "Serial Data Input", 3 SCLK (in) "Serial Clock Input", 4 ~{CS} (in) "Chip-Select Input", 5 H0 "High Terminal of Resistor 0", 6 L0 "Low Terminal of Resistor 0", 7 W0A "Wiper Terminal A of Resistor 0", 8 W0B "Wiper Terminal B of Resistor 0", 9 W1B "Wiper Terminal B of Resistor 1", 10 W1A "Wiper Terminal A of Resistor 1", 11 L1 "Low Terminal of Resistor 1", 12 H1 "High Terminal of Resistor 1", 13 AGND (power) "Analog Ground", 14 GND (power) "Ground", 15 VLOGIC (power) "Digital Logic Power Supply", 16 VDD (power) "Analog Power Supply"

## MAX5409EEE-T
designator U?
Dual Audio Digital Potentiometer with 3-Wire Serial SPI Control Interface, Volatile, Log Taper, 32 Steps, -40 to 85 degC, 16-pin QSOP (E16-4), Tape and Reel; PartNumber: MAX5409EEE-T; DatasheetVersion: Rev. 3; PackageVersion: Rev. K, 04/2012; PackageReference: E16-4; PackageDescription: 16-Pin Quarter Small-Outline Package, Body 4.90 x 3.89 mm, Pitch 0.635 mm; Supplier 1: Mouser; Supplier Part Number 1: N/A; Control Interface: 3-Wire Serial SPI; Features: Dual Wipers Per Resistor String; Mounting Technology: Surface Mount; Code_JEDEC: MO137; ComponentLink1Description: Manufacturer URL; ComponentLink1URL: http://www.maximintegrated.com/; ComponentLink2Description: Datasheet; ComponentLink2URL: http://datasheets.maximintegrated.com/en/ds/MAX5408-MAX5411.pdf; ComponentLink3Description: Package Specification; ComponentLink3URL: http://pdfserv.maximintegrated.com/package_dwgs/21-0055.PDF
footprint MAXM-E16-4_N (SOP, 16-Leads, Body 4.90x3.89mm, Pitch 0.635mm, IPC Medium Density)
footprint MAXM-E16-4_L (SOP, 16-Leads, Body 4.90x3.89mm, Pitch 0.635mm, IPC High Density)
footprint MAXM-E16-4_M (SOP, 16-Leads, Body 4.90x3.89mm, Pitch 0.635mm, IPC Low Density)
pins: 1 DOUT (out) "Serial Data Output", 2 DIN (in) "Serial Data Input", 3 SCLK (in) "Serial Clock Input", 4 ~{CS} (in) "Chip-Select Input", 5 H0 "High Terminal of Resistor 0", 6 L0 "Low Terminal of Resistor 0", 7 W0A "Wiper Terminal A of Resistor 0", 8 W0B "Wiper Terminal B of Resistor 0", 9 W1B "Wiper Terminal B of Resistor 1", 10 W1A "Wiper Terminal A of Resistor 1", 11 L1 "Low Terminal of Resistor 1", 12 H1 "High Terminal of Resistor 1", 13 AGND (power) "Analog Ground", 14 GND (power) "Ground", 15 VLOGIC (power) "Digital Logic Power Supply", 16 VDD (power) "Analog Power Supply"

## MAX5409ETE
designator U?
Dual Audio Digital Potentiometer with 3-Wire Serial SPI Control Interface, Volatile, Log Taper, 32 Steps, -40 to 85 degC, 16-pin TQFN (T1644-4); PartNumber: MAX5409ETE; DatasheetVersion: Rev. 3; PackageVersion: Rev. L, 04/2012; PackageReference: T1644-4; PackageDescription: 16-Pin Thin Quad Flatpack, No Leads (T1644-4), Body 4 x 4 mm, Pitch 0.65 mm; Supplier 1: Mouser; Supplier Part Number 1: N/A; Control Interface: 3-Wire Serial SPI; Features: Dual Wipers Per Resistor String; Mounting Technology: Surface Mount; Code_JEDEC: MO220; ComponentLink1Description: Manufacturer URL; ComponentLink1URL: http://www.maximintegrated.com/; ComponentLink2Description: Datasheet; ComponentLink2URL: http://datasheets.maximintegrated.com/en/ds/MAX5408-MAX5411.pdf; ComponentLink3Description: Package Specification; ComponentLink3URL: http://pdfserv.maximintegrated.com/package_dwgs/21-0139.PDF
footprint MAXM-T1644-4_N (QFN, 16-Leads, Body 4x4mm, Pitch 0.65mm, Thermal Pad 2.1x2.1mm, IPC Medium Density)
footprint MAXM-T1644-4_L (QFN, 16-Leads, Body 4x4mm, Pitch 0.65mm, Thermal Pad 2.1x2.1mm, IPC High Density)
footprint MAXM-T1644-4_M (QFN, 16-Leads, Body 4x4mm, Pitch 0.65mm, Thermal Pad 2.1x2.1mm, IPC Low Density)
pins: 1 SCLK (in) "Serial Clock Input", 2 ~{CS} (in) "Chip-Select Input", 3 H0 "High Terminal of Resistor 0", 4 L0 "Low Terminal of Resistor 0", 5 W0A "Wiper Terminal A of Resistor 0", 6 W0B "Wiper Terminal B of Resistor 0", 7 W1B "Wiper Terminal B of Resistor 1", 8 W1A "Wiper Terminal A of Resistor 1", 9 L1 "Low Terminal of Resistor 1", 10 H1 "High Terminal of Resistor 1", 11 AGND (power) "Analog Ground", 12 GND (power) "Ground", 13 VLOGIC (power) "Digital Logic Power Supply", 14 VDD (power) "Analog Power Supply", 15 DOUT (out) "Serial Data Output", 16 DIN (in) "Serial Data Input", 17 EP "Exposed pad"

## MAX5409ETE+
designator U?
Dual Audio Digital Potentiometer with 3-Wire Serial SPI Control Interface, Volatile, Log Taper, 32 Steps, -40 to 85 degC, 16-pin TQFN (T1644+4), Pb-Free; PartNumber: MAX5409ETE+; DatasheetVersion: Rev. 3; PackageVersion: Rev. L, 04/2012; PackageReference: T1644+4; PackageDescription: 16-Pin Thin Quad Flatpack, No Leads (T1644+4), Body 4 x 4 mm, Pitch 0.65 mm; Supplier 1: Digi-Key; Supplier Part Number 1: MAX5409ETE+-ND; Supplier 2: Mouser; Supplier Part Number 2: 700-MAX5409ETE; Control Interface: 3-Wire Serial SPI; Features: Dual Wipers Per Resistor String; Mounting Technology: Surface Mount; Code_JEDEC: MO220; ComponentLink1Description: Manufacturer URL; ComponentLink1URL: http://www.maximintegrated.com/; ComponentLink2Description: Datasheet; ComponentLink2URL: http://datasheets.maximintegrated.com/en/ds/MAX5408-MAX5411.pdf; ComponentLink3Description: Package Specification; ComponentLink3URL: http://pdfserv.maximintegrated.com/package_dwgs/21-0139.PDF
footprint MAXM-T1644+4_N (QFN, 16-Leads, Body 4x4mm, Pitch 0.65mm, Thermal Pad 2.1x2.1mm, IPC Medium Density)
footprint MAXM-T1644+4_L (QFN, 16-Leads, Body 4x4mm, Pitch 0.65mm, Thermal Pad 2.1x2.1mm, IPC High Density)
footprint MAXM-T1644+4_M (QFN, 16-Leads, Body 4x4mm, Pitch 0.65mm, Thermal Pad 2.1x2.1mm, IPC Low Density)
pins: 1 SCLK (in) "Serial Clock Input", 2 ~{CS} (in) "Chip-Select Input", 3 H0 "High Terminal of Resistor 0", 4 L0 "Low Terminal of Resistor 0", 5 W0A "Wiper Terminal A of Resistor 0", 6 W0B "Wiper Terminal B of Resistor 0", 7 W1B "Wiper Terminal B of Resistor 1", 8 W1A "Wiper Terminal A of Resistor 1", 9 L1 "Low Terminal of Resistor 1", 10 H1 "High Terminal of Resistor 1", 11 AGND (power) "Analog Ground", 12 GND (power) "Ground", 13 VLOGIC (power) "Digital Logic Power Supply", 14 VDD (power) "Analog Power Supply", 15 DOUT (out) "Serial Data Output", 16 DIN (in) "Serial Data Input", 17 EP "Exposed pad"

## MAX5409ETE+T
designator U?
Dual Audio Digital Potentiometer with 3-Wire Serial SPI Control Interface, Volatile, Log Taper, 32 Steps, -40 to 85 degC, 16-pin TQFN (T1644+4), Pb-Free, Tape and Reel; PartNumber: MAX5409ETE+T; DatasheetVersion: Rev. 3; PackageVersion: Rev. L, 04/2012; PackageReference: T1644+4; PackageDescription: 16-Pin Thin Quad Flatpack, No Leads (T1644+4), Body 4 x 4 mm, Pitch 0.65 mm; Supplier 1: Digi-Key; Supplier Part Number 1: MAX5409ETE+T-ND; Supplier 2: Mouser; Supplier Part Number 2: 700-MAX5409ETET; Control Interface: 3-Wire Serial SPI; Features: Dual Wipers Per Resistor String; Mounting Technology: Surface Mount; Code_JEDEC: MO220; ComponentLink1Description: Manufacturer URL; ComponentLink1URL: http://www.maximintegrated.com/; ComponentLink2Description: Datasheet; ComponentLink2URL: http://datasheets.maximintegrated.com/en/ds/MAX5408-MAX5411.pdf; ComponentLink3Description: Package Specification; ComponentLink3URL: http://pdfserv.maximintegrated.com/package_dwgs/21-0139.PDF
footprint MAXM-T1644+4_N (QFN, 16-Leads, Body 4x4mm, Pitch 0.65mm, Thermal Pad 2.1x2.1mm, IPC Medium Density)
footprint MAXM-T1644+4_L (QFN, 16-Leads, Body 4x4mm, Pitch 0.65mm, Thermal Pad 2.1x2.1mm, IPC High Density)
footprint MAXM-T1644+4_M (QFN, 16-Leads, Body 4x4mm, Pitch 0.65mm, Thermal Pad 2.1x2.1mm, IPC Low Density)
pins: 1 SCLK (in) "Serial Clock Input", 2 ~{CS} (in) "Chip-Select Input", 3 H0 "High Terminal of Resistor 0", 4 L0 "Low Terminal of Resistor 0", 5 W0A "Wiper Terminal A of Resistor 0", 6 W0B "Wiper Terminal B of Resistor 0", 7 W1B "Wiper Terminal B of Resistor 1", 8 W1A "Wiper Terminal A of Resistor 1", 9 L1 "Low Terminal of Resistor 1", 10 H1 "High Terminal of Resistor 1", 11 AGND (power) "Analog Ground", 12 GND (power) "Ground", 13 VLOGIC (power) "Digital Logic Power Supply", 14 VDD (power) "Analog Power Supply", 15 DOUT (out) "Serial Data Output", 16 DIN (in) "Serial Data Input", 17 EP "Exposed pad"

## MAX5409ETE-T
designator U?
Dual Audio Digital Potentiometer with 3-Wire Serial SPI Control Interface, Volatile, Log Taper, 32 Steps, -40 to 85 degC, 16-pin TQFN (T1644-4), Tape and Reel; PartNumber: MAX5409ETE-T; DatasheetVersion: Rev. 3; PackageVersion: Rev. L, 04/2012; PackageReference: T1644-4; PackageDescription: 16-Pin Thin Quad Flatpack, No Leads (T1644-4), Body 4 x 4 mm, Pitch 0.65 mm; Supplier 1: Mouser; Supplier Part Number 1: N/A; Control Interface: 3-Wire Serial SPI; Features: Dual Wipers Per Resistor String; Mounting Technology: Surface Mount; Code_JEDEC: MO220; ComponentLink1Description: Manufacturer URL; ComponentLink1URL: http://www.maximintegrated.com/; ComponentLink2Description: Datasheet; ComponentLink2URL: http://datasheets.maximintegrated.com/en/ds/MAX5408-MAX5411.pdf; ComponentLink3Description: Package Specification; ComponentLink3URL: http://pdfserv.maximintegrated.com/package_dwgs/21-0139.PDF
footprint MAXM-T1644-4_N (QFN, 16-Leads, Body 4x4mm, Pitch 0.65mm, Thermal Pad 2.1x2.1mm, IPC Medium Density)
footprint MAXM-T1644-4_L (QFN, 16-Leads, Body 4x4mm, Pitch 0.65mm, Thermal Pad 2.1x2.1mm, IPC High Density)
footprint MAXM-T1644-4_M (QFN, 16-Leads, Body 4x4mm, Pitch 0.65mm, Thermal Pad 2.1x2.1mm, IPC Low Density)
pins: 1 SCLK (in) "Serial Clock Input", 2 ~{CS} (in) "Chip-Select Input", 3 H0 "High Terminal of Resistor 0", 4 L0 "Low Terminal of Resistor 0", 5 W0A "Wiper Terminal A of Resistor 0", 6 W0B "Wiper Terminal B of Resistor 0", 7 W1B "Wiper Terminal B of Resistor 1", 8 W1A "Wiper Terminal A of Resistor 1", 9 L1 "Low Terminal of Resistor 1", 10 H1 "High Terminal of Resistor 1", 11 AGND (power) "Analog Ground", 12 GND (power) "Ground", 13 VLOGIC (power) "Digital Logic Power Supply", 14 VDD (power) "Analog Power Supply", 15 DOUT (out) "Serial Data Output", 16 DIN (in) "Serial Data Input", 17 EP "Exposed pad"

## MAX5410EEE
designator U?
Dual Audio Digital Potentiometer with 3-Wire Serial SPI Control Interface, Volatile, Log Taper, 32 Steps, -40 to 85 degC, 16-pin QSOP (E16-1); PartNumber: MAX5410EEE; DatasheetVersion: Rev. 3; PackageVersion: Rev. K, 04/2012; PackageReference: E16-1; PackageDescription: 16-Pin Quarter Small-Outline Package (E16-1), Body 4.90 x 3.89 mm, Pitch 0.635 mm; Supplier 1: Mouser; Supplier Part Number 1: N/A; Control Interface: 3-Wire Serial SPI; Mounting Technology: Surface Mount; Code_JEDEC: MO137; ComponentLink1Description: Manufacturer URL; ComponentLink1URL: http://www.maximintegrated.com/; ComponentLink2Description: Datasheet; ComponentLink2URL: http://datasheets.maximintegrated.com/en/ds/MAX5408-MAX5411.pdf; ComponentLink3Description: Package Specification; ComponentLink3URL: http://pdfserv.maximintegrated.com/package_dwgs/21-0055.PDF
footprint MAXM-E16-1_N (SOP, 16-Leads, Body 4.9x3.89mm, Pitch 0.635mm, IPC Medium Density)
footprint MAXM-E16-1_L (SOP, 16-Leads, Body 4.9x3.89mm, Pitch 0.635mm, IPC High Density)
footprint MAXM-E16-1_M (SOP, 16-Leads, Body 4.9x3.89mm, Pitch 0.635mm, IPC Low Density)
pins: 1 DOUT (out) "Serial Data Output", 2 DIN (in) "Serial Data Input", 3 SCLK (in) "Serial Clock Input", 4 ~{CS} (in) "Chip-Select Input", 5 H0 "High Terminal of Resistor 0", 6 L0 "Low Terminal of Resistor 0", 7 W0A "Wiper Terminal A of Resistor 0", 8 NC "No Connection. Not internally connected.", 9 NC "No Connection. Not internally connected.", 10 W1A "Wiper Terminal A of Resistor 1", 11 L1 "Low Terminal of Resistor 1", 12 H1 "High Terminal of Resistor 1", 13 AGND (power) "Analog Ground", 14 GND (power) "Ground", 15 VLOGIC (power) "Digital Logic Power Supply", 16 VDD (power) "Analog Power Supply"

## MAX5410EEE+
designator U?
Dual Audio Digital Potentiometer with 3-Wire Serial SPI Control Interface, Volatile, Log Taper, 32 Steps, -40 to 85 degC, 16-pin QSOP (E16+1), Pb-Free; PartNumber: MAX5410EEE+; DatasheetVersion: Rev. 3; PackageVersion: Rev. K, 04/2012; PackageReference: E16+1; PackageDescription: 16-Pin Quarter Small-Outline Package (E16+1), Body 4.90 x 3.89 mm, Pitch 0.635 mm; Supplier 1: Digi-Key; Supplier Part Number 1: MAX5410EEE+-ND; Supplier 2: Mouser; Supplier Part Number 2: 700-MAX5410EEE; Control Interface: 3-Wire Serial SPI; Mounting Technology: Surface Mount; Code_JEDEC: MO137; ComponentLink1Description: Manufacturer URL; ComponentLink1URL: http://www.maximintegrated.com/; ComponentLink2Description: Datasheet; ComponentLink2URL: http://datasheets.maximintegrated.com/en/ds/MAX5408-MAX5411.pdf; ComponentLink3Description: Package Specification; ComponentLink3URL: http://pdfserv.maximintegrated.com/package_dwgs/21-0055.PDF
footprint MAXM-E16+1_N (SOP, 16-Leads, Body 4.9x3.89mm, Pitch 0.635mm, IPC Medium Density)
footprint MAXM-E16+1_L (SOP, 16-Leads, Body 4.9x3.89mm, Pitch 0.635mm, IPC High Density)
footprint MAXM-E16+1_M (SOP, 16-Leads, Body 4.9x3.89mm, Pitch 0.635mm, IPC Low Density)
pins: 1 DOUT (out) "Serial Data Output", 2 DIN (in) "Serial Data Input", 3 SCLK (in) "Serial Clock Input", 4 ~{CS} (in) "Chip-Select Input", 5 H0 "High Terminal of Resistor 0", 6 L0 "Low Terminal of Resistor 0", 7 W0A "Wiper Terminal A of Resistor 0", 8 NC "No Connection. Not internally connected.", 9 NC "No Connection. Not internally connected.", 10 W1A "Wiper Terminal A of Resistor 1", 11 L1 "Low Terminal of Resistor 1", 12 H1 "High Terminal of Resistor 1", 13 AGND (power) "Analog Ground", 14 GND (power) "Ground", 15 VLOGIC (power) "Digital Logic Power Supply", 16 VDD (power) "Analog Power Supply"

## MAX5410EEE+T
designator U?
Dual Audio Digital Potentiometer with 3-Wire Serial SPI Control Interface, Volatile, Log Taper, 32 Steps, -40 to 85 degC, 16-pin QSOP (E16+1), Pb-Free, Tape and Reel; PartNumber: MAX5410EEE+T; DatasheetVersion: Rev. 3; PackageVersion: Rev. K, 04/2012; PackageReference: E16+1; PackageDescription: 16-Pin Quarter Small-Outline Package (E16+1), Body 4.90 x 3.89 mm, Pitch 0.635 mm; Supplier 1: Digi-Key; Supplier Part Number 1: MAX5410EEE+T-ND; Supplier 2: Mouser; Supplier Part Number 2: 700-MAX5410EEET; Control Interface: 3-Wire Serial SPI; Mounting Technology: Surface Mount; Code_JEDEC: MO137; ComponentLink1Description: Manufacturer URL; ComponentLink1URL: http://www.maximintegrated.com/; ComponentLink2Description: Datasheet; ComponentLink2URL: http://datasheets.maximintegrated.com/en/ds/MAX5408-MAX5411.pdf; ComponentLink3Description: Package Specification; ComponentLink3URL: http://pdfserv.maximintegrated.com/package_dwgs/21-0055.PDF
footprint MAXM-E16+1_N (SOP, 16-Leads, Body 4.9x3.89mm, Pitch 0.635mm, IPC Medium Density)
footprint MAXM-E16+1_L (SOP, 16-Leads, Body 4.9x3.89mm, Pitch 0.635mm, IPC High Density)
footprint MAXM-E16+1_M (SOP, 16-Leads, Body 4.9x3.89mm, Pitch 0.635mm, IPC Low Density)
pins: 1 DOUT (out) "Serial Data Output", 2 DIN (in) "Serial Data Input", 3 SCLK (in) "Serial Clock Input", 4 ~{CS} (in) "Chip-Select Input", 5 H0 "High Terminal of Resistor 0", 6 L0 "Low Terminal of Resistor 0", 7 W0A "Wiper Terminal A of Resistor 0", 8 NC "No Connection. Not internally connected.", 9 NC "No Connection. Not internally connected.", 10 W1A "Wiper Terminal A of Resistor 1", 11 L1 "Low Terminal of Resistor 1", 12 H1 "High Terminal of Resistor 1", 13 AGND (power) "Analog Ground", 14 GND (power) "Ground", 15 VLOGIC (power) "Digital Logic Power Supply", 16 VDD (power) "Analog Power Supply"